# EAGLE library part PCF8523 (library graftel-internal-ic)
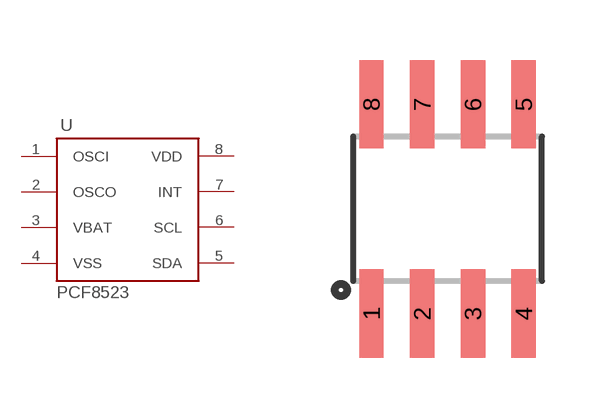
[diagram p45: symbol with the pads of SOIC8; footprint SOIC8]

Designator prefix U

## PCF8523  [SOIC8]
1  OSCI
2  OSCO
3  VBAT
4  VSS
5  SDA
6  SCL
7  INT
8  VDD

## Footprint SOIC8 (pad centres in mm)
SOIC 8-Lead
smd 0.61 x 2.21: 1 -1.905,-2.616; 2 -0.635,-2.616; 3 0.635,-2.616; 4 1.905,-2.616; 5 1.905,2.616; 6 0.635,2.616; 7 -0.635,2.616; 8 -1.905,2.616